# EAGLE library part LTC2955CTS8-1#TRMPBF (library LTC2955CTS8-1#TRMPBF)
LTC2955CTS8-1#TRMPBF, Voltage Controller 0.76V Push Button Controller 8-Pin TSOT-23 Source: Datasheet <http://uk.rs-online.com/web/p/products/8226837P>
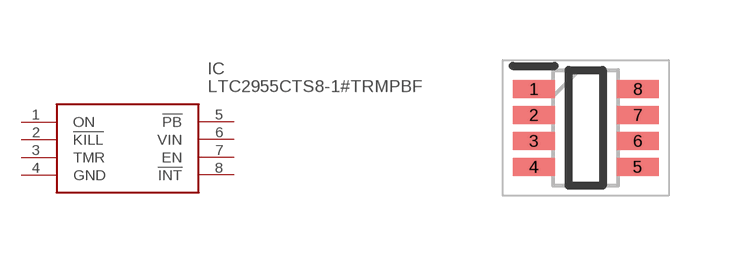
[diagram p0: symbol with the pads of SOT65P280X100-8N; footprint SOT65P280X100-8N]

Designator prefix IC

## LTC2955CTS8-1#TRMPBF (Description: LTC2955CTS8-1#TRMPBF, Voltage Controller 0.76V Push Button Controller 8-Pin TSOT-23; Height: 1mm; Manufacturer_Name: Linear Technology; Manufacturer_Part_Number: LTC2955CTS8-1#TRMPBF; RS_Part_Number: 8226837P; RS_Price-Stock: http://uk.rs-online.com/web/p/products/8226837P)  [SOT65P280X100-8N]
1  ON
2  !KILL
3  TMR
4  GND  pwr
5  !PB
6  VIN  in
7  EN
8  !INT  in

## Footprint SOT65P280X100-8N (pad centres in mm)
TS8(TSOT-23)
smd 1.05 x 0.45: 1 -1.3,0.975; 2 -1.3,0.325; 3 -1.3,-0.325; 4 -1.3,-0.975; 5 1.3,-0.975; 6 1.3,-0.325; 7 1.3,0.325; 8 1.3,0.975